# Altium footprint library AUVic_PCB_Library_Capacitors.PcbLib: 24 footprints (part 2 of 2)
Each footprint in its own frame and in the unit in brackets; x right, y up, seen from the top. Pads: shape width x height; smd on the part's side, far side on the other; paste and mask are expansions set on the pad; w line width, h text height; cw(c..) or ccw(c..) is an arc to the next point about the centre after c.
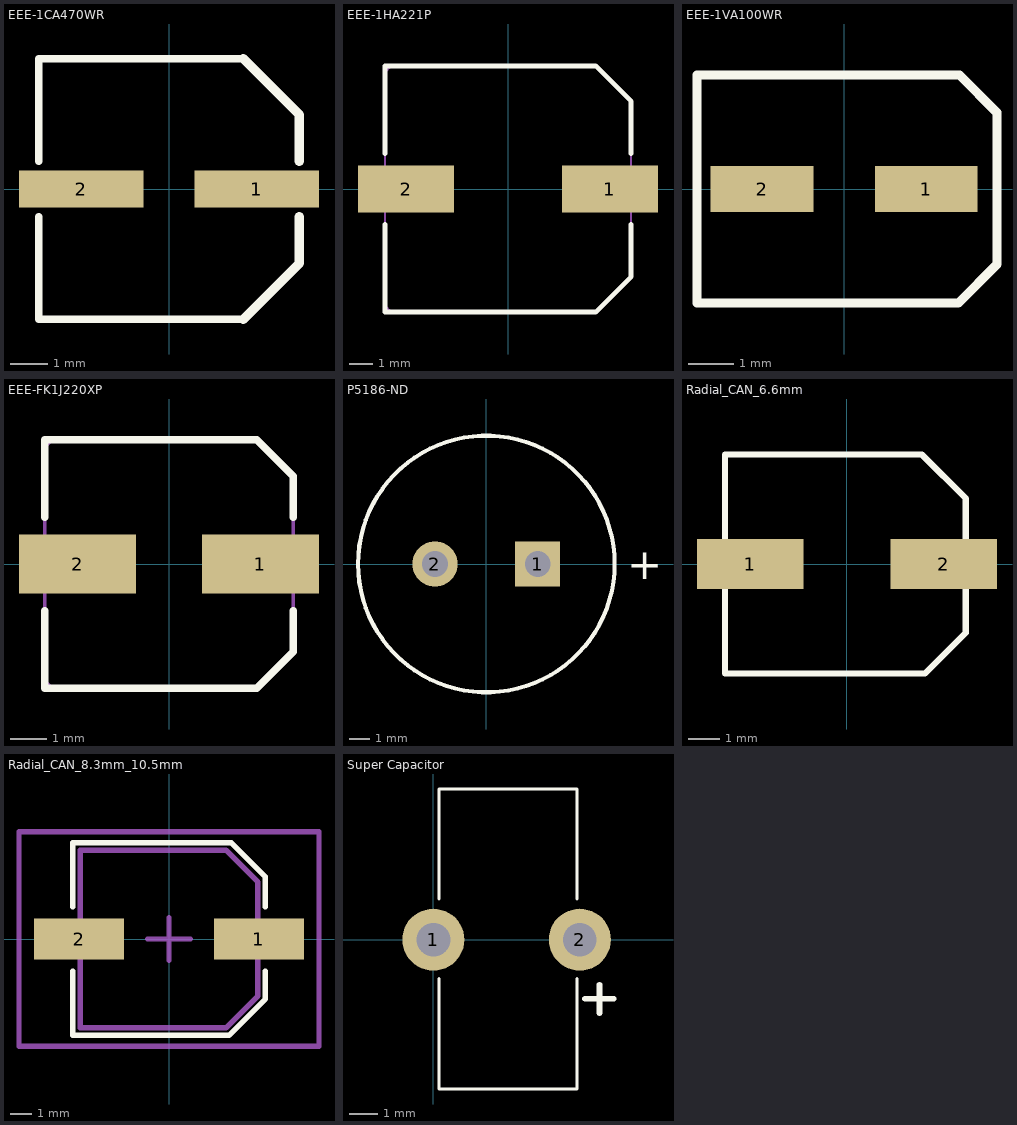
[diagram p1: the footprints below, top view; thin cyan lines are the x and y axes]

## EEE-1CA470WR [mm]
pads (2):
  rect 3.35x1 smd: 1(2.357,0) 2(-2.357,0)
Top Overlay:
  lines w0.2: -3.5,-0.75 -3.5,-3.5 2,-3.5 ; -3.5,0.75 -3.5,3.5 2,3.5
  lines w0.254: 2,-3.5 3.5,-2 3.5,-0.75 ; 2,3.5 3.5,2 3.5,0.75

## EEE-1HA221P [mm] "Capacitor, SMD, Digi#PCE3921CT-ND, Panasonic-ECG"
height 10.2
pads (2):
  rect 4.1x2 smd: 1(4.35,0) 2(-4.35,0)
Top Overlay:
  lines w0.2: -5.25,-1.5 -5.25,-5.25 3.75,-5.25 5.25,-3.75 5.25,-1.5 ; -5.25,1.5 -5.25,5.25 3.75,5.25 5.25,3.75 5.25,1.5
Body Top:
  lines w0.1: -5.25,-4.85 -5.25,4.827 cw(c-4.827,4.827) -4.827,5.25 3.75,5.25 5.25,3.75 5.25,-3.75 3.75,-5.25 -4.85,-5.25 ; -5.25,-4.827 ccw(c-4.827,-4.827) -4.827,-5.25
  text ".Designator" at -9,-2 h1.52
3D body: height 11, standoff 0.05, extent -5.25,-5.247 5.25,5.247
3D body: height 0.5, standoff 0, extent -5.251,-5.251 5.251,5.251

## EEE-1VA100WR [mm]
pads (2):
  rect 2.25x1 smd: 1(1.8,0) 2(-1.8,0)
Top Overlay:
  lines w0.2: -3.225,-2.5 2.5,-2.5 3.35,-1.65 3.35,1.675 2.525,2.5 -3.225,2.5 -3.225,-0.4 -3.225,-2.5
Body Top:
  text ".Designator" at -9,-2 h1.52

## EEE-FK1J220XP [mm] "Capacitor, SMD, Digi#PCE3821CT-ND, Panasonic-ECG"
height 7.7
pads (2):
  rect 3.2x1.6 smd: 1(2.5,0) 2(-2.5,0)
Top Overlay:
  lines w0.2: -3.4,-1.27 -3.4,-3.4 2.4,-3.4 3.4,-2.4 3.4,-1.27 ; -3.4,1.27 -3.4,3.4 2.4,3.4 3.4,2.4 3.4,1.27
Body Top:
  lines w0.1: -3.4,-3.05 ccw(c-3.05,-3.05) -3.05,-3.4 2.4,-3.4 3.4,-2.4 3.4,2.4 2.4,3.4 -3.05,3.4 ccw(c-3.05,3.05) -3.4,3.05 -3.4,-3.05
  text ".Designator" at -9,-2 h1.52
3D body: height 0.5, standoff 0, extent -3.401,-3.401 3.401,3.401
3D body: height 7.7, standoff 0.05, extent -3.373,-3.393 3.4,3.393

## P5186-ND [mm] "Capacitor, THT, Digi#732-1209-1-ND, Panasonic-ECG"
height 25
pads (2):
  rect 2.2x2.2 hole 1.25: 1(2.5,0)
  round 2.2 hole 1.25: 2(-2.5,0)
Top Overlay:
  circle w0.2: c0,0 r6.25
  text "+" at 6.862,-0.737 h1.5
Body Top:
  text ".Designator" at -9,-2 h1.52
3D body: height 0, standoff -4, extent -2.847,-0.349 -2.15,0.349
3D body: height 25, standoff 0, extent -6.201,-6.238 6.25,6.238
3D body: height 0, standoff -4, extent 2.153,-0.349 2.85,0.349

## Radial_CAN_6.6mm [mm] "Radial Electrolytic Can, 8.3mm Radius, 10.5mm Height"
pads (2):
  rect 3.4x1.6 smd: 1(-3.1,0) 2(3.1,0)
Top Overlay:
  lines w0.2: -3.9,-3.5 -3.9,0.4 -3.9,3.5 2.4,3.5 3.8,2.1 3.8,-2.2 2.5,-3.5 -3.9,-3.5
3D body: height 1.27, standoff 0, extent -0.2,1.2 -0.2,1.2
3D body: height 1.27, standoff 0, extent -2.3,-1.5 -2.3,-1.5
3D body "User Library-6_3x7_7.step": height 8, standoff 0, extent -3.8,-3.3 3.8,3.3

## Radial_CAN_8.3mm_10.5mm [mm] "Radial Electrolytic Can, 8.3mm Radius, 10.5mm Height"
pads (2):
  rect 4.2x1.9 smd: 1(4.2,0) 2(-4.2,0)
Top Overlay:
  lines w0.254: -4.5,-1.5 -4.5,-4.5 2.8,-4.5 4.5,-2.8 4.5,-1.5 ; -4.5,1.5 -4.5,4.5 2.9,4.5 4.5,2.9 4.5,1.5
Body Top:
  lines w0.254: 4.15,-2.05 4.15,-2.65 ; 4.15,2.05 4.15,2.65 ; 4.15,-2.65 4.15,2.65 ; 4.15,-2.65 2.65,-4.15 -4.15,-4.15 -4.15,4.15 2.65,4.15 4.15,2.65
  text ".Designator" at -9,-2 h1.52
Courtyard Top:
  lines w0.254: -1,0 1,0 ; 0,-1 0,1 ; -7,-5 -7,5 7,5 7,-5 -7,-5
3D body "User Library-ALU-F.STEP": height 10.2, standoff 0, extent -4.95,-4.15 4.95,4.15

## Super Capacitor [mm]
pads (2):
  round 2.2 hole 1.2: 1(0,0) 2(5.2,0)
Top Overlay:
  lines w0.1: 0.2,-1.375 0.2,-5.3 5.1,-5.3 5.1,-1.375 ; 0.2,1.45 0.2,5.35 5.1,5.35 5.1,1.45
  lines w0.2: 5.384,-2.1 6.4,-2.1 ; 5.9,-2.6 5.9,-1.6